# Altium footprint library PcbLib1.PcbLib: 31 footprints (part 2 of 2)
Each footprint in its own frame and in the unit in brackets; x right, y up, seen from the top. Pads: shape width x height; smd on the part's side, far side on the other; paste and mask are expansions set on the pad; w line width, h text height; cw(c..) or ccw(c..) is an arc to the next point about the centre after c.
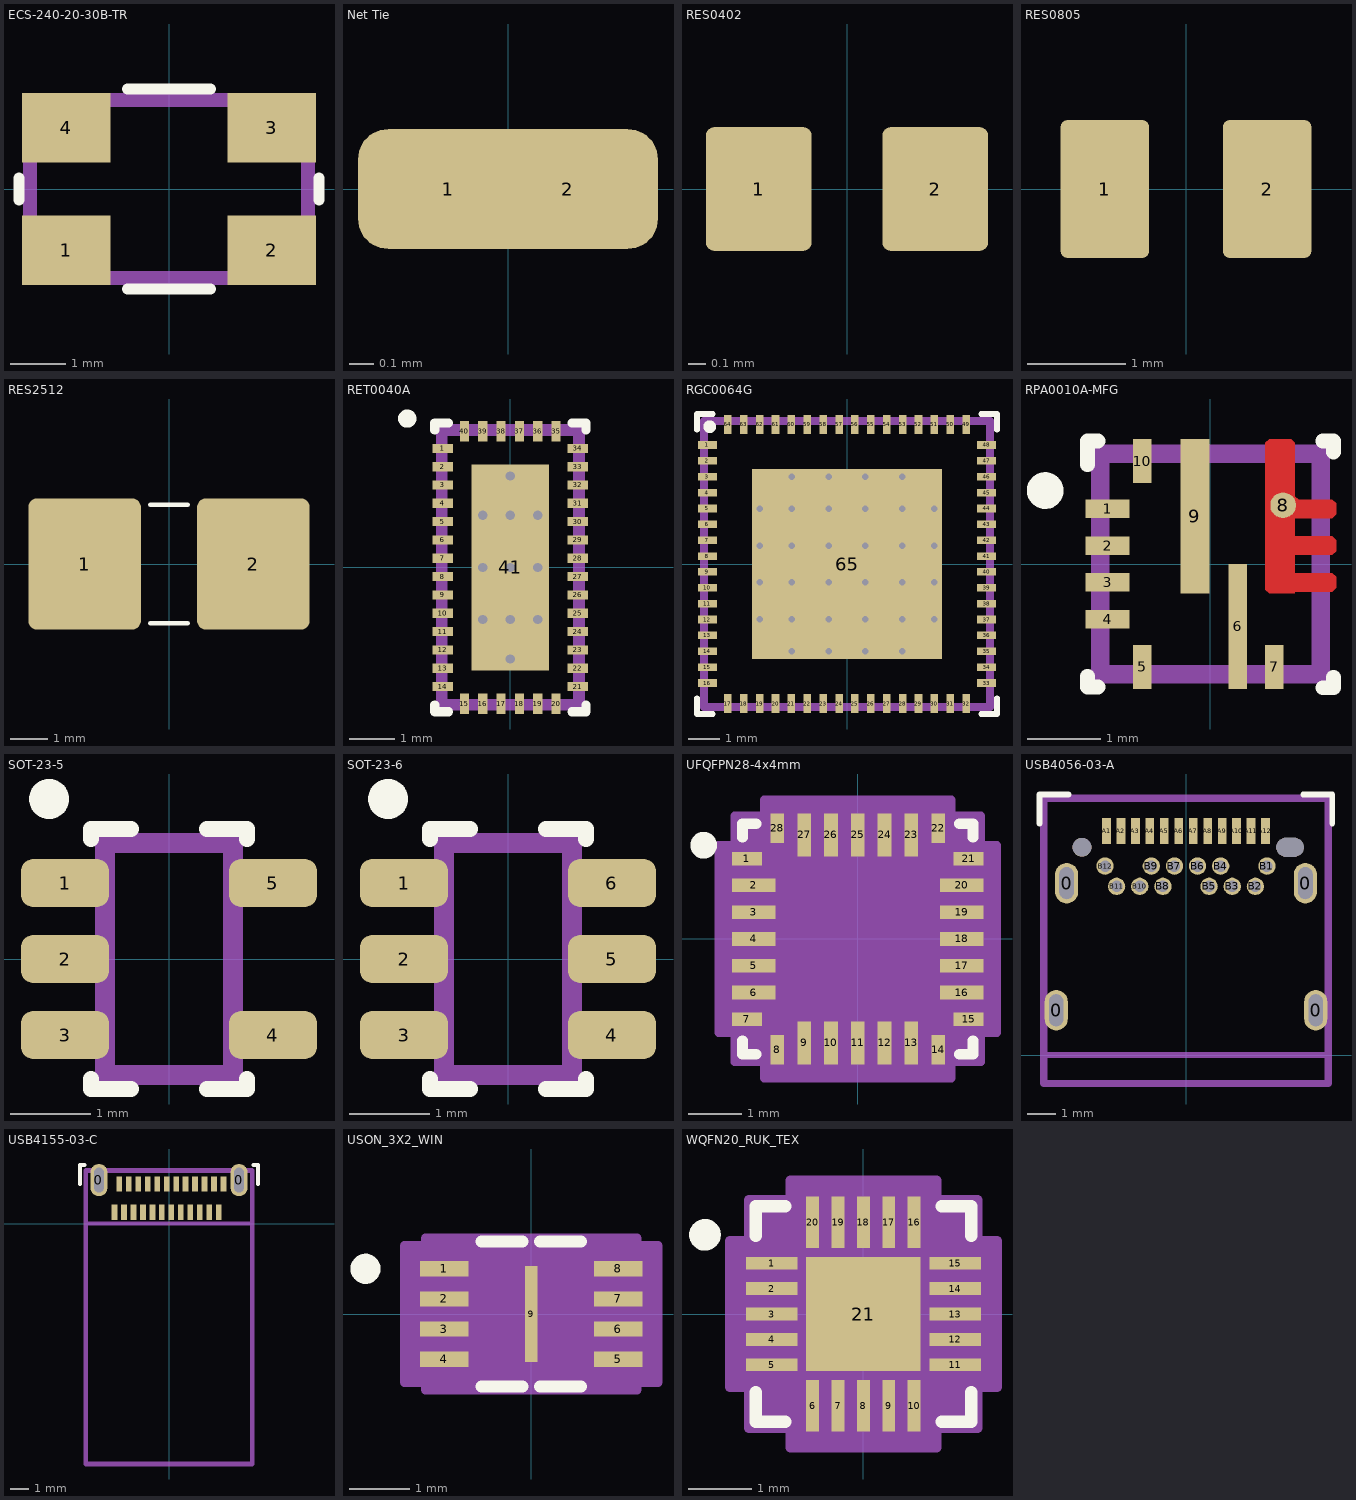
[diagram p1: the footprints below, top view; thin cyan lines are the x and y axes]

## ECS-240-20-30B-TR [mm]
pads (4):
  rect 1.6x1.25 smd: 1(-1.85,-1.1) 2(1.85,-1.1) 3(1.85,1.1) 4(-1.85,1.1)
Top Overlay:
  lines w0.2: -2.7,-0.2 -2.7,0.2 ; -0.75,-1.8 0.75,-1.8 ; -0.75,1.8 0.75,1.8 ; 2.7,-0.2 2.7,0.2
Top Component Outline:
  lines w0.254: -2.5,-1.6 2.5,-1.6 2.5,1.6 -2.5,1.6 -2.5,-1.6
M9 PCB Sheet:
  text ".Designator" at -2.253,-0.226 h1
3D body: height 0.85, standoff 0, extent -2.5,-1.6 2.5,1.6

## Net Tie [mm]
pads (2):
  rrect50% 0.75x0.5 smd paste+0 mask+0: 1(-0.25,0) 2(0.25,0)

## RES0402 [mm] "Chip Resistor, Body 1x0.5mm, IPC Medium Density"
pads (2):
  rrect15% 0.6x0.7 smd: 1(-0.5,0) 2(0.5,0)
M9 PCB Sheet:
  text ".Designator" at -2.253,-0.226 h1
3D body "User Library-R SMD 0402.STEP": height 0.27, standoff -0.08, extent -0.5,-0.25 0.5,0.25

## RES0805 [mm] "Chip Resistor, 2-Leads, Body 2.00x1.25mm, IPC High Density"
height 0.5
pads (2):
  rrect15% 0.9x1.4 smd: 1(-0.825,0) 2(0.825,0)
M9 PCB Sheet:
  text ".Designator" at -2.253,-0.226 h1
3D body "0805 resistor.step": height 0.61, standoff 0.01, extent -1,-0.625 1,0.625

## RES2512 [mm]
pads (2):
  rrect15% 3x3.5 smd: 1(-2.25,0) 2(2.25,0)
Top Overlay:
  lines w0.127: -0.5,-1.58 0.5,-1.58 ; -0.5,1.58 0.5,1.58
M9 PCB Sheet:
  text ".Designator" at -3.379,-0.339 h1.5
3D body "R SMD 2512.STEP": height 0.82, standoff 0.22, extent -3.131,-1.575 3.169,1.575

## RET0040A [mm]
pads (41):
  rect 0.45x0.2 smd: 1(-1.475,2.6) 2(-1.475,2.2) 3(-1.475,1.8) 4(-1.475,1.4) 5(-1.475,1) 6(-1.475,0.6) 7(-1.475,0.2) 8(-1.475,-0.2) 9(-1.475,-0.6) 10(-1.475,-1) 11(-1.475,-1.4) 12(-1.475,-1.8) 13(-1.475,-2.2) 14(-1.475,-2.6) 21(1.475,-2.6) 22(1.475,-2.2) 23(1.475,-1.8) 24(1.475,-1.4) 25(1.475,-1) 26(1.475,-0.6) 27(1.475,-0.2) 28(1.475,0.2) 29(1.475,0.6) 30(1.475,1) 31(1.475,1.4) 32(1.475,1.8) 33(1.475,2.2) 34(1.475,2.6)
  rect 0.2x0.45 smd: 15(-1,-2.975) 16(-0.6,-2.975) 17(-0.2,-2.975) 18(0.2,-2.975) 19(0.6,-2.975) 20(1,-2.975) 35(1,2.975) 36(0.6,2.975) 37(0.2,2.975) 38(-0.2,2.975) 39(-0.6,2.975) 40(-1,2.975)
  rect 1.7x4.5 smd: 41(0,0)
via 0,0 diameter 0.2 hole 0.2
via 0.6,0 diameter 0.2 hole 0.2
via -0.6,0 diameter 0.2 hole 0.2
via 0,-1.14 diameter 0.2 hole 0.2
via 0.6,-1.14 diameter 0.2 hole 0.2
via -0.6,-1.14 diameter 0.2 hole 0.2
via 0,1.14 diameter 0.2 hole 0.2
via 0.6,1.14 diameter 0.2 hole 0.2
via -0.6,1.14 diameter 0.2 hole 0.2
via 0,-2 diameter 0.2 hole 0.2
via 0,2 diameter 0.2 hole 0.2
Top Overlay:
  circle w0.2: c-2.25,3.25 r0.1
  lines w0.2: -1.65,-3 -1.65,-3.15 -1.35,-3.15 ; -1.65,3 -1.65,3.15 -1.35,3.15 ; 1.35,-3.15 1.65,-3.15 1.65,-3 ; 1.35,3.15 1.65,3.15 1.65,3
Top Component Outline:
  lines w0.254: -1.5,-3 1.5,-3 1.5,3 -1.5,3 -1.5,-3
M9 PCB Sheet:
  text ".Designator" at -2.253,-0.226 h1
3D body "RET0040A.stp": height 0.8, standoff 0, extent -1.5,-3 1.5,3

## RGC0064G [mm]
pads (65):
  rect 0.6x0.24 smd: 1(-4.4,3.75) 2(-4.4,3.25) 3(-4.4,2.75) 4(-4.4,2.25) 5(-4.4,1.75) 6(-4.4,1.25) 7(-4.4,0.75) 8(-4.4,0.25) 9(-4.4,-0.25) 10(-4.4,-0.75) 11(-4.4,-1.25) 12(-4.4,-1.75) 13(-4.4,-2.25) 14(-4.4,-2.75) 15(-4.4,-3.25) 16(-4.4,-3.75) 33(4.4,-3.75) 34(4.4,-3.25) 35(4.4,-2.75) 36(4.4,-2.25) 37(4.4,-1.75) 38(4.4,-1.25) 39(4.4,-0.75) 40(4.4,-0.25) 41(4.4,0.25) 42(4.4,0.75) 43(4.4,1.25) 44(4.4,1.75) 45(4.4,2.25) 46(4.4,2.75) 47(4.4,3.25) 48(4.4,3.75)
  rect 0.24x0.6 smd: 17(-3.751,-4.4) 18(-3.251,-4.4) 19(-2.751,-4.4) 20(-2.251,-4.4) 21(-1.75,-4.4) 22(-1.25,-4.4) 23(-0.75,-4.4) 24(-0.25,-4.4) 25(0.25,-4.4) 26(0.75,-4.4) 27(1.25,-4.4) 28(1.75,-4.4) 29(2.251,-4.4) 30(2.751,-4.4) 31(3.251,-4.4) 32(3.751,-4.4) 49(3.751,4.4) 50(3.251,4.4) 51(2.751,4.4) 52(2.251,4.4) 53(1.75,4.4) 54(1.25,4.4) 55(0.75,4.4) 56(0.25,4.4) 57(-0.25,4.4) 58(-0.75,4.4) 59(-1.25,4.4) 60(-1.75,4.4) 61(-2.251,4.4) 62(-2.751,4.4) 63(-3.251,4.4) 64(-3.751,4.4)
  rect 6x6 smd: 65(0,0)
via -1.74,2.75 diameter 0.2 hole 0.2
via -0.58,2.75 diameter 0.2 hole 0.2
via 0.58,2.75 diameter 0.2 hole 0.2
via -2.75,1.74 diameter 0.2 hole 0.2
via -1.74,1.74 diameter 0.2 hole 0.2
via -2.75,0.58 diameter 0.2 hole 0.2
via -1.74,0.58 diameter 0.2 hole 0.2
via -0.58,1.74 diameter 0.2 hole 0.2
via 0.58,1.74 diameter 0.2 hole 0.2
via 1.74,2.75 diameter 0.2 hole 0.2
via 1.74,1.74 diameter 0.2 hole 0.2
via 2.75,1.74 diameter 0.2 hole 0.2
via 2.75,0.58 diameter 0.2 hole 0.2
via 1.74,0.58 diameter 0.2 hole 0.2
via 0.58,0.58 diameter 0.2 hole 0.2
via -0.58,0.58 diameter 0.2 hole 0.2
via -2.75,-0.58 diameter 0.2 hole 0.2
via -1.74,-0.58 diameter 0.2 hole 0.2
via -0.58,-0.58 diameter 0.2 hole 0.2
via 0.58,-0.58 diameter 0.2 hole 0.2
via 1.74,-0.58 diameter 0.2 hole 0.2
via 2.75,-0.58 diameter 0.2 hole 0.2
via 2.75,-1.74 diameter 0.2 hole 0.2
via 1.74,-1.74 diameter 0.2 hole 0.2
via 1.74,-2.75 diameter 0.2 hole 0.2
via 0.58,-2.75 diameter 0.2 hole 0.2
via 0.58,-1.74 diameter 0.2 hole 0.2
via -0.58,-1.74 diameter 0.2 hole 0.2
via -0.58,-2.75 diameter 0.2 hole 0.2
via -1.74,-2.75 diameter 0.2 hole 0.2
via -1.74,-1.74 diameter 0.2 hole 0.2
via -2.75,-1.74 diameter 0.2 hole 0.2
Top Overlay:
  circle w0.2: c-4.325,4.325 r0.1
  lines w0.178: -4.725,-4.225 -4.725,-4.725 -4.225,-4.725 ; -4.725,4.225 -4.725,4.725 -4.225,4.725 ; 4.225,-4.725 4.725,-4.725 4.725,-4.225 ; 4.225,4.725 4.725,4.725 4.725,4.225
Top Component Outline:
  lines w0.254: -4.5,-4.5 4.5,-4.5 4.5,4.5 -4.5,4.5 -4.5,-4.5
M9 PCB Sheet:
  text ".Designator" at -2.253,-0.226 h1
3D body "RGC0064G.stp": height 0.97, standoff -0.03, extent -4.5,-4.5 4.5,4.5

## RPA0010A-MFG [mm]
pads (10):
  rect 0.6x0.25 smd: 1(-1.4,0.75) 2(-1.4,0.25) 3(-1.4,-0.25) 4(-1.4,-0.75)
  rect 0.25x0.6 smd: 5(-0.93,-1.4) 7(0.87,-1.4) 10(-0.93,1.4)
  rect 0.25x1.7 smd: 6(0.37,-0.85)
  round 0.35 smd paste+0 mask+0: 8(0.99,0.8)
  rect 0.4x2.1 smd: 9(-0.21,0.65)
Top Layer:
  region: 1.1,1.7 0.8,1.7 0.75,1.65 0.75,-0.35 0.8,-0.4 1.15,-0.4 1.15,-0.375 1.66,-0.375 1.71,-0.325 1.71,-0.175 1.66,-0.125 1.15,-0.125 1.15,0.125 1.66,0.125 1.71,0.175 1.71,0.325 1.66,0.375 1.15,0.375 1.15,0.625 1.66,0.625 1.71,0.675 1.71,0.825 1.66,0.875 1.2,0.875 1.15,0.925 1.15,1.65
Top Overlay:
  circle w0.25: c-2.25,1 r0.125
  lines w0.2: -1.675,-1.53 -1.675,-1.675 -1.53,-1.675 ; -1.675,1.35 -1.675,1.675 -1.53,1.675 ; 1.53,-1.685 1.675,-1.685 1.675,-1.54 ; 1.53,1.675 1.675,1.675 ; 1.675,1.525 1.675,1.67
Top Paste:
  region: 1.1,1.7 0.8,1.7 0.75,1.65 0.75,-0.35 0.8,-0.4 1.15,-0.4 1.15,-0.375 1.66,-0.375 1.71,-0.325 1.71,-0.175 1.66,-0.125 1.15,-0.125 1.15,0.125 1.66,0.125 1.71,0.175 1.71,0.325 1.66,0.375 1.15,0.375 1.15,0.625 1.66,0.625 1.71,0.675 1.71,0.825 1.66,0.875 1.2,0.875 1.15,0.925 1.15,1.65
  region: -0.41,1.655 -0.36,1.705 -0.06,1.705 -0.01,1.655 -0.01,0.805 -0.06,0.755 -0.36,0.755 -0.41,0.805
  region: -0.36,-0.395 -0.41,-0.345 -0.41,0.505 -0.36,0.555 -0.06,0.555 -0.01,0.505 -0.01,-0.345 -0.06,-0.395
  region: 0.295,-1.705 0.245,-1.655 0.245,-1.005 0.295,-0.955 0.445,-0.955 0.495,-1.005 0.495,-1.655 0.445,-1.705
  region: 0.295,-0.005 0.445,-0.005 0.495,-0.055 0.495,-0.705 0.445,-0.755 0.295,-0.755 0.245,-0.705 0.245,-0.055
Top Solder:
  region: 1.1,1.7 0.8,1.7 0.75,1.65 0.75,-0.35 0.8,-0.4 1.15,-0.4 1.15,-0.375 1.66,-0.375 1.71,-0.325 1.71,-0.175 1.66,-0.125 1.15,-0.125 1.15,0.125 1.66,0.125 1.71,0.175 1.71,0.325 1.66,0.375 1.15,0.375 1.15,0.625 1.66,0.625 1.71,0.675 1.71,0.825 1.66,0.875 1.2,0.875 1.15,0.925 1.15,1.65
Top Component Outline:
  lines w0.254: -1.5,-1.5 1.5,-1.5 1.5,1.5 -1.5,1.5 -1.5,-1.5
M9 PCB Sheet:
  text ".Designator" at -2.253,-0.226 h1
3D body "RPA0010A.stp": height 1, standoff 0, extent -1.5,-1.5 1.5,1.5

## SOT-23-5 [mm]
pads (5):
  rrect50% 1.1x0.6 smd: 1(-1.3,0.95) 2(-1.3,0) 3(-1.3,-0.95) 4(1.3,-0.95) 5(1.3,0.95)
Top Overlay:
  circle w0.25: c-1.5,2 r0.125
  lines w0.2: -0.975,-1.5 -0.975,-1.625 -0.475,-1.625 ; -0.975,1.5 -0.975,1.625 -0.475,1.625 ; 0.475,-1.625 0.975,-1.625 0.975,-1.5 ; 0.475,1.625 0.975,1.625 0.975,1.5
Top Component Outline:
  lines w0.254: -0.8,-1.45 -0.8,1.45 0.8,1.45 0.8,-1.45 -0.8,-1.45
M9 PCB Sheet:
  text ".Designator" at -2.253,-0.226 h1
3D body "DBV0005A.stp": height 1.2, standoff 0, extent -1.4,-1.45 1.4,1.45

## SOT-23-6 [mm]
pads (6):
  rrect50% 1.1x0.6 smd: 1(-1.3,0.95) 2(-1.3,0) 3(-1.3,-0.95) 4(1.3,-0.95) 5(1.3,0) 6(1.3,0.95)
Top Overlay:
  circle w0.25: c-1.5,2 r0.125
  lines w0.2: -0.975,-1.5 -0.975,-1.625 -0.475,-1.625 ; -0.975,1.5 -0.975,1.625 -0.475,1.625 ; 0.475,-1.625 0.975,-1.625 0.975,-1.5 ; 0.475,1.625 0.975,1.625 0.975,1.5
Top Component Outline:
  lines w0.254: -0.8,-1.45 0.8,-1.45 0.8,1.45 -0.8,1.45 -0.8,-1.45
M9 PCB Sheet:
  text ".Designator" at -2.253,-0.226 h1
3D body "DBV0006A.stp": height 1.2, standoff 0, extent -1.4,-1.45 1.4,1.45

## UFQFPN28-4x4mm [mm]
pads (28):
  rect 0.554x0.255 smd: 1(-2.068,1.5) 7(-2.068,-1.5) 15(2.068,-1.5) 21(2.068,1.5)
  rect 0.808x0.255 smd: 2(-1.941,1) 3(-1.941,0.5) 4(-1.941,0) 5(-1.941,-0.5) 6(-1.941,-1) 16(1.941,-1) 17(1.941,-0.5) 18(1.941,0) 19(1.941,0.5) 20(1.941,1)
  rect 0.255x0.554 smd: 8(-1.5,-2.068) 14(1.5,-2.068) 22(1.5,2.068) 28(-1.5,2.068)
  rect 0.255x0.808 smd: 9(-1,-1.941) 10(-0.5,-1.941) 11(0,-1.941) 12(0.5,-1.941) 13(1,-1.941) 23(1,1.941) 24(0.5,1.941) 25(0,1.941) 26(-0.5,1.941) 27(-1,1.941)
Top Overlay:
  circle w0.25: c-2.875,1.75 r0.125
  lines w0.2: -2.15,-1.9 -2.15,-2.15 -1.9,-2.15 ; -2.15,1.9 -2.15,2.15 -1.9,2.15 ; 1.9,-2.15 2.15,-2.15 2.15,-1.9 ; 1.9,2.15 2.15,2.15 2.15,1.9
Top Component Outline:
  lines w0.254: -2,-2 2,-2 2,2 -2,2 -2,-2
M9 PCB Sheet:
  text ".Designator" at -2.253,-0.226 h1
Top Courtyard:
  region: -1.751,-2.299 -2.3,-2.299 -2.3,-1.751 -2.6,-1.751 -2.6,1.749 -2.3,1.749 -2.3,2.298 -1.751,2.298 -1.751,2.598 1.749,2.598 1.749,2.298 2.298,2.298 2.298,1.749 2.598,1.749 2.598,-1.751 2.298,-1.751 2.298,-2.299 1.749,-2.299 1.749,-2.599 -1.751,-2.599
  lines w0.152: -2.599,-1.75 -2.599,1.75 -2.299,1.75 -2.299,2.299 -1.75,2.299 -1.75,2.599 1.75,2.599 1.75,2.299 2.299,2.299 2.299,1.75 2.599,1.75 2.599,-1.75 2.299,-1.75 2.299,-2.299 1.75,-2.299 1.75,-2.599 -1.75,-2.599 -1.75,-2.299 -2.299,-2.299 -2.299,-1.75 -2.599,-1.75
3D body "UFQFPN28-4x4mm.step": height 0.61, standoff 0, extent -2.045,-2.045 2.045,2.045

## USB4056-03-A [mm] "USB C 3.2 REC, HORZ, HYBRID PCB"
pads (30):
  oval 0.8x1.4 hole 0.5 slot 1.1 at 90 deg: 0(-4.49,1.55) 0(-4.13,5.95) 0(4.13,5.95) 0(4.49,1.55)
  rect 0.3x0.9 smd: A1(-2.75,7.75) A2(-2.25,7.75) A3(-1.75,7.75) A4(-1.25,7.75) A5(-0.75,7.75) A6(-0.25,7.75) A7(0.25,7.75) A8(0.75,7.75) A9(1.25,7.75) A10(1.75,7.75) A11(2.25,7.75) A12(2.75,7.75)
  round 0.6 hole 0.4: B1(2.8,6.54) B2(2.4,5.84) B3(1.6,5.84) B4(1.2,6.54) B5(0.8,5.84) B6(0.4,6.54) B7(-0.4,6.54) B8(-0.8,5.84) B9(-1.2,6.54) B10(-1.6,5.84) B11(-2.4,5.84) B12(-2.8,6.54)
  round 0.65 hole 0.65 mask+0: ""(-3.6,7.19)
  oval 0.95x0.65 hole 0.65 slot 0.95 at 0 deg mask+0: ""(3.6,7.19)
Top Overlay:
  lines w0.2: -5.066,8.015 -5.066,9.015 -4.066,9.015 ; 4.06,9.015 5.06,9.015 5.06,8.015
M1 Board Outline:
  lines w0.2: -4.925,0 4.925,0
Top Component Outline:
  lines w0.254: -4.925,-0.98 4.925,-0.98 4.925,8.89 -4.925,8.89 -4.925,-0.98
M9 PCB Sheet:
  text ".Designator" at -2.253,3.729 h1
3D body "USB4056-03-A.stp": height 3.33, standoff -1.13, extent -4.925,-0.98 4.925,8.89

## USB4155-03-C [mm] "USB TYPE C, PLUG, SMT , G/F, RIG"
pads (26):
  oval 0.9x1.7 hole 0.5 slot 1.3 at 90 deg: 0(-3.7,2.3) 0(3.7,2.3)
  rect 0.3x0.8 smd: A1(2.875,2.1) A2(2.375,2.1) A3(1.875,2.1) A4(1.375,2.1) A5(0.875,2.1) A6(0.375,2.1) A7(-0.125,2.1) A8(-0.625,2.1) A9(-1.125,2.1) A10(-1.625,2.1) A11(-2.125,2.1) A12(-2.625,2.1) B1(-2.875,0.6) B2(-2.375,0.6) B3(-1.875,0.6) B4(-1.375,0.6) B5(-0.875,0.6) B6(-0.375,0.6) B7(0.125,0.6) B8(0.625,0.6) B9(1.125,0.6) B10(1.625,0.6) B11(2.125,0.6) B12(2.625,0.6)
Top Overlay:
  lines w0.2: -4.7,2.1 -4.7,3.1 -4.45,3.1 ; 4.45,3.1 4.7,3.1 4.7,2.1
M1 Board Outline:
  lines w0.2: -4.4,0 4.4,0
Top Component Outline:
  lines w0.254: -4.4,-12.7 4.4,-12.7 4.4,2.8 -4.4,2.8 -4.4,-12.7
M9 PCB Sheet:
  text ".Designator" at -2.253,-0.226 h1
3D body "USB4155-03-C.stp": height 1.58, standoff -1.32, extent -4.4,-12.7 4.4,2.8

## USON_3X2_WIN [mil]
pads (9):
  rect 31.81x10.03 smd: 1(-56.91,29.54) 2(-56.91,9.85) 3(-56.91,-9.85) 4(-56.91,-29.54) 5(56.91,-29.54) 6(56.91,-9.85) 7(56.91,9.85) 8(56.91,29.54)
  rect 8x63 smd: 9(0,0)
Top Overlay:
  circle w9.84: c-108.27,29.53 r4.92
  lines w7.87: -32.48,-47.24 -5.62,-47.24 ; -32.48,47.24 -5.62,47.24 ; 5.62,-47.24 32.48,-47.24 ; 5.62,47.24 32.48,47.24
M9 PCB Sheet:
  text ".Designator" at -88.7,-8.89 h39.37
Top Courtyard:
  region: -69,-44.55 -82.81,-44.55 -82.81,44.55 -69,44.55 -69,49.5 69,49.5 69,44.55 82.81,44.55 82.81,-44.55 69,-44.55 69,-49.5 -69,-49.5
  lines w6: -82.81,-44.55 -82.81,44.55 -69,44.55 -69,49.5 69,49.5 69,44.55 82.81,44.55 82.81,-44.55 69,-44.55 69,-49.5 -69,-49.5 -69,-44.55 -82.81,-44.55
3D body "USON_3X2_WIN.step": height 24.09, standoff 0, extent -60.98,-39.49 60.98,39.49
3D body "USON_3X2_WIN.step": height 24.09, standoff 0, extent -60.98,-39.49 60.98,39.49

## WQFN20_RUK_TEX [mil]
pads (21):
  rect 32x8 smd: 1(-57,31.5) 2(-57,15.75) 3(-57,0) 4(-57,-15.75) 5(-57,-31.5) 11(57,-31.5) 12(57,-15.75) 13(57,0) 14(57,15.75) 15(57,31.5)
  rect 8x32 smd: 6(-31.5,-57) 7(-15.75,-57) 8(0,-57) 9(15.75,-57) 10(31.5,-57) 16(31.5,57) 17(15.75,57) 18(0,57) 19(-15.75,57) 20(-31.5,57)
  rect 71x71 smd: 21(0,0)
Top Overlay:
  circle w9.84: c-98.43,49.21 r4.92
  lines w7.87: -66.93,-48.6 -66.93,-66.93 -48.6,-66.93 ; -66.93,48.6 -66.93,66.93 -48.6,66.93 ; 48.6,-66.93 66.93,-66.93 66.93,-48.6 ; 48.6,66.93 66.93,66.93 66.93,48.6
Top Component Outline:
  lines w10: -59.06,-59.06 59.06,-59.06 59.06,59.06 -59.06,59.06 -59.06,-59.06
M9 PCB Sheet:
  text ".Designator" at -88.7,-8.89 h39.37
Top Courtyard:
  region: -45.5,-71 -71,-71 -71,-45.5 -83,-45.5 -83,45.5 -71,45.5 -71,71 -45.5,71 -45.5,83 45.5,83 45.5,71 71,71 71,45.5 83,45.5 83,-45.5 71,-45.5 71,-71 45.5,-71 45.5,-83 -45.5,-83
  lines w6: -83,-45.5 -71,-45.5 -71,-71 -45.5,-71 -45.5,-83 45.5,-83 45.5,-71 71,-71 71,-45.5 83,-45.5 83,45.5 71,45.5 71,71 45.5,71 45.5,83 -45.5,83 -45.5,71 -71,71 -71,45.5 -83,45.5 -83,-45.5
3D body "RUK0020B.stp": height 31.5, standoff 0, extent -59.06,-59.06 59.06,59.06
3D body "WQFN20_RUK_TEX.step": height 32.09, standoff 0, extent -60.98,-60.98 60.98,60.98